# EAGLE library part TPS54231D (library TPS54231D)
Buy Part <https://snapeda.com/parts/TPS54231D/Texas%20Instruments/view-part/?ref=eda>
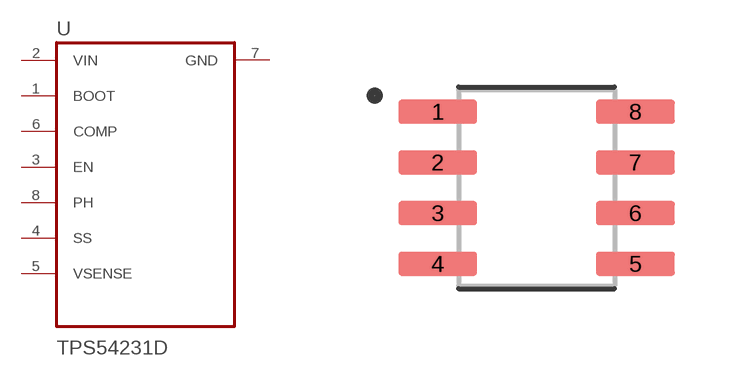
[diagram p0: symbol with the pads of SOIC127P599X175-8N; footprint SOIC127P599X175-8N]

Designator prefix U

## TPS54231D (Availability: Good; Description: 3.5 to 28V Input, 2A, 570kHz Step-Down Converter with Eco-mode&trade; 8-SOIC -40 to 150; DigiKey-Purchase-URL: https://snapeda.com/shop?store=DigiKey&id=456068; MF: Texas Instruments; MP: TPS54231D; Mouser-Purchase-URL: https://snapeda.com/shop?store=Mouser&id=456068; Package: SOIC-8 Texas Instruments; Price: None; Texas_Instruments-Purchase-URL: https://snapeda.com/shop?store=Texas+Instruments&id=456068)  [SOIC127P599X175-8N]
1  BOOT
2  VIN  in
3  EN
4  SS
5  VSENSE
6  COMP
7  GND  pwr
8  PH

## Footprint SOIC127P599X175-8N (pad centres in mm)
smd 1.97 x 0.6: 1 -2.47,1.905; 2 -2.47,0.635; 3 -2.47,-0.635; 4 -2.47,-1.905; 5 2.47,-1.905; 6 2.47,-0.635; 7 2.47,0.635; 8 2.47,1.905